# Altium integrated library DC-DC Converter.IntLib: 4 symbols
Pins are listed as number, name and electrical type; pins without a type are passive.

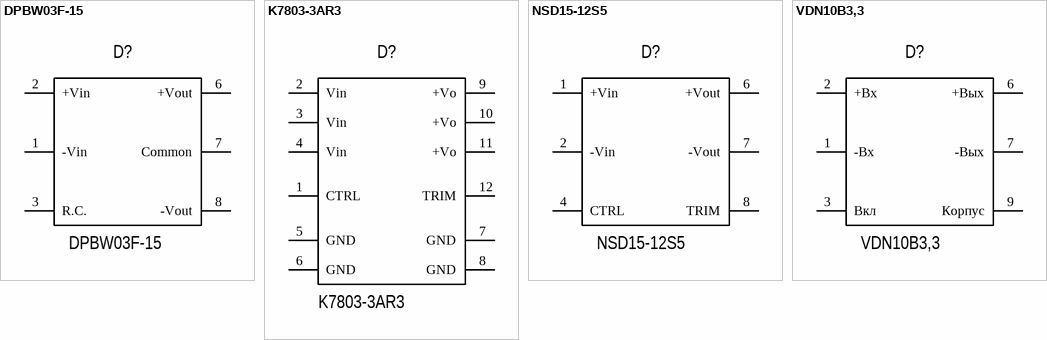
[diagram p0: symbols DPBW03F-15 to VDN10B3,3]

## DPBW03F-15
designator D?
DC DC CONVERTER +/-15V 3W; Manufacture: MEAN WELL USA Inc.; Name: DC-DC преобразователь; Case: 8-SIP 7 Leads; HelpURL: https://www.digikey.com/en/products/detail/mean-well-usa-inc/DPBW03F-15/7702843?s=N4IgTCBcDaICIAUBCB1ADAZgGIFoCMArAAQgC6AvkA; Model: DPBW03F-15; Value: DPBW03F-15
footprint DPBW03F
pins: 1 -Vin, 2 +Vin, 3 R.C., 6 +Vout, 7 Common, 8 -Vout

## K7803-3AR3
designator D?
DC DC CONVERTER 3.3V 10W; Manufacture: Mornsun America, LLC; Name: DC-DC преобразователь; Case: 12-SIP Module; HelpURL: https://www.digikey.com/en/products/detail/mornsun-america-llc/K7803-3AR3/13168210; Model: K7803-3AR3; Value: K7803-3AR3
footprint K7803-3AR3
pins: 1 CTRL, 2 Vin, 3 Vin, 4 Vin, 5 GND, 6 GND, 7 GND, 8 GND, 9 +Vo, 10 +Vo, 11 +Vo, 12 TRIM

## NSD15-12S5
designator D?
DC DC CONVERTER 5V 15W; Manufacture: MEAN WELL USA Inc.; Name: DC-DC преобразователь; Case: 8-DIP Module, 6 Leads; HelpURL: https://www.digikey.com/en/products/detail/mean-well-usa-inc/NSD15-12S5/7705451?s=N4IgTCBcDaIHIGUAiBGArAWhWBaAEIAugL5A; Model: NSD15-12S5; Value: NSD15-12S5
footprint NSD15-12S5
pins: 1 +Vin, 2 -Vin, 4 CTRL, 6 +Vout, 7 -Vout, 8 TRIM

## VDN10B3,3
designator D?
DC-DC преобразователь 10Вт вход 12В выход 3.3В SIP8 22.3х10х12.1мм; Manufacture: Voltbricks; Case: 8-SIP 7 Leads; HelpURL: https://www.platan.ru/cgi-bin/qwery.pl/id=2015453572; Model: VDN10B3,3; Value: VDN10B3,3; Name: DC-DC преобразователь
footprint VDN10B
pins: 1 -Вх, 2 +Вх, 3 Вкл, 6 +Вых, 7 -Вых, 9 Корпус